# EAGLE library part ATMEGA32U4-AU (library Microcontroller)
IC MCU 8BIT 32KB FLASH 44TQFP Manufacturer's datasheet <http://ww1.microchip.com/downloads/en/DeviceDoc/Atmel-7766-8-bit-AVR-ATmega16U4-32U4_Summary.pdf>
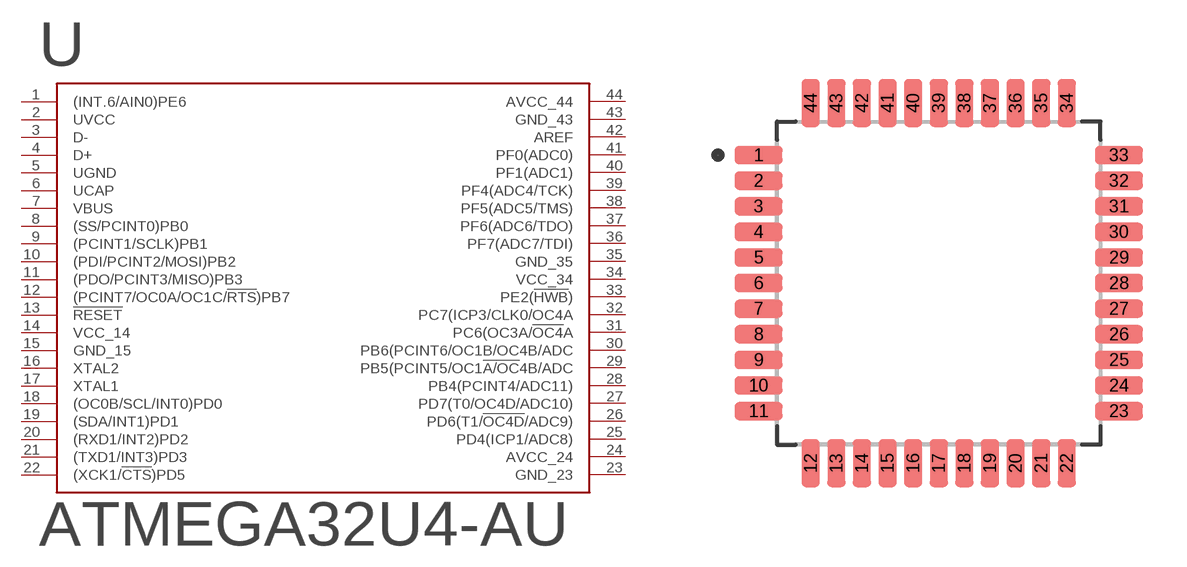
[diagram p29: symbol with the pads of 44-TQFP; footprint 44-TQFP]

Designator prefix U

## ATMEGA32U4-AU (CREATED_BY: PCBLayout.com; DIGIKEY_PART_NUMBER: ATMEGA32U4-AU-ND; MANUFACTURER: Microchip Technology; MPN: ATMEGA32U4-AU; PACKAGE: 44-TQFP)  [44-TQFP]
1  (INT.6/AIN0)PE6
2  UVCC  pwr
3  D-  in
4  D+  in
5  UGND  pwr
6  UCAP  pwr
7  VBUS  in
8  (SS/PCINT0)PB0
9  (PCINT1/SCLK)PB1
10  (PDI/PCINT2/MOSI)PB2
11  (PDO/PCINT3/MISO)PB3
12  (PCINT7/OC0A/OC1C/!RTS!)PB7
13  !RESET  in
14  VCC_14  pwr
15  GND_15  pwr
16  XTAL2  out
17  XTAL1  in
18  (OC0B/SCL/INT0)PD0
19  (SDA/INT1)PD1
20  (RXD1/INT2)PD2
21  (TXD1/INT3)PD3
22  (XCK1/!CTS!)PD5
23  GND_23  pwr
24  AVCC_24  pwr
25  PD4(ICP1/ADC8)
26  PD6(T1/!OC4D!/ADC9)
27  PD7(T0/OC4D/ADC10)
28  PB4(PCINT4/ADC11)
29  PB5(PCINT5/OC1!A/OC!4B/ADC
30  PB6(PCINT6/OC1B/OC4B/ADC
31  PC6(OC3A/!OC4!A
32  PC7(ICP3/CLK0/OC4A
33  PE2(!HWB!)
34  VCC_34  pwr
35  GND_35  pwr
36  PF7(ADC7/TDI)
37  PF6(ADC6/TDO)
38  PF5(ADC5/TMS)
39  PF4(ADC4/TCK)
40  PF1(ADC1)
41  PF0(ADC0)
42  AREF  in
43  GND_43  pwr
44  AVCC_44  pwr

## Footprint 44-TQFP (pad centres in mm)
Quad Flat Pack (QFP), 0.80 mm pitch; square, 11 pin X 11 pin, 10.00 mm L X 10.00 mm W X 1.20 mm H body PCB Libraries Packages
smd 1.5 x 0.57: 1 -5.63,4; 2 -5.63,3.2; 3 -5.63,2.4; 4 -5.63,1.6; 5 -5.63,0.8; 6 -5.63,0; 7 -5.63,-0.8; 8 -5.63,-1.6; 9 -5.63,-2.4; 10 -5.63,-3.2; 11 -5.63,-4; 23 5.63,-4; 24 5.63,-3.2; 25 5.63,-2.4; 26 5.63,-1.6; 27 5.63,-0.8; 28 5.63,0; 29 5.63,0.8; 30 5.63,1.6; 31 5.63,2.4; 32 5.63,3.2; 33 5.63,4
smd 0.57 x 1.5: 12 -4,-5.63; 13 -3.2,-5.63; 14 -2.4,-5.63; 15 -1.6,-5.63; 16 -0.8,-5.63; 17 0,-5.63; 18 0.8,-5.63; 19 1.6,-5.63; 20 2.4,-5.63; 21 3.2,-5.63; 22 4,-5.63; 34 4,5.63; 35 3.2,5.63; 36 2.4,5.63; 37 1.6,5.63; 38 0.8,5.63; 39 0,5.63; 40 -0.8,5.63; 41 -1.6,5.63; 42 -2.4,5.63; 43 -3.2,5.63; 44 -4,5.63